# Altium footprint library Transistor.PcbLib: 3 footprints
Each footprint in its own frame and in the unit in brackets; x right, y up, seen from the top. Pads: shape width x height; smd on the part's side, far side on the other; paste and mask are expansions set on the pad; w line width, h text height; cw(c..) or ccw(c..) is an arc to the next point about the centre after c.
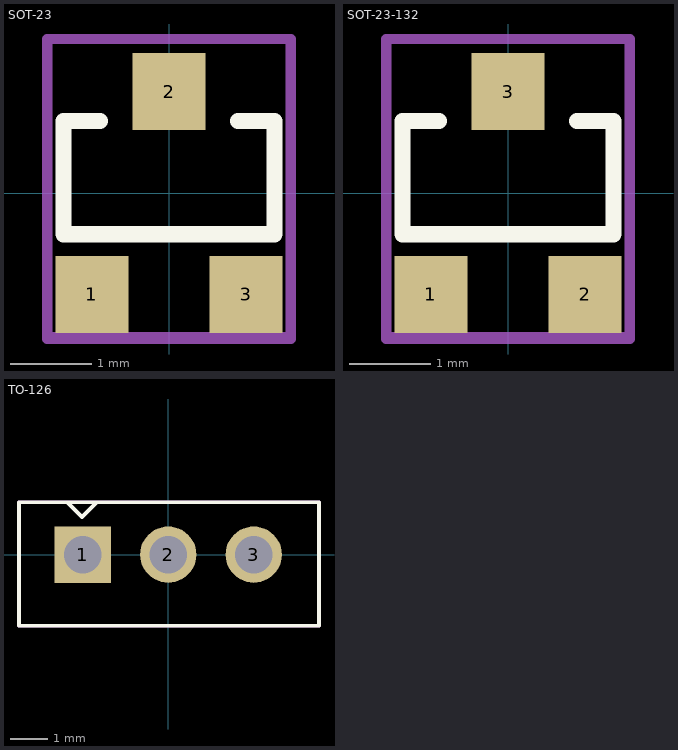
[diagram p0: the footprints below, top view; thin cyan lines are the x and y axes]

## SOT-23 [mm]
height 1.1
pads (3):
  rect 0.9x0.95 smd: 1(-0.95,-1.25) 2(0,1.25) 3(0.95,-1.25)
Top Overlay:
  lines w0.2: -0.85,0.889 -1.3,0.889 -1.3,-0.508 1.3,-0.508 1.3,0.889 0.85,0.889
Mechanical 13:
  lines w0.127: -1.5,-1.778 -1.5,1.9 1.5,1.9 1.5,-1.778 -1.5,-1.778
  text ".Designator" at 0.2,-1.6 h1
Mechanical 15:
  lines w0.127: -1.5,-1.8 -1.5,1.9 1.5,1.9 1.5,-1.8 -1.5,-1.8
  text ".Comment" at 0.254,-1.651 h1
3D body "SW3DPS-SOT-23-DEFAULT.STEP": height 1.06, standoff -0.04, extent -1.5,-1.123 1.5,1.377

## SOT-23-132 [mm]
height 1.1
pads (3):
  rect 0.9x0.95 smd: 1(-0.95,-1.25) 2(0.95,-1.25) 3(0,1.25)
Top Overlay:
  lines w0.2: -0.85,0.889 -1.3,0.889 -1.3,-0.508 1.3,-0.508 1.3,0.889 0.85,0.889
Mechanical 13:
  lines w0.127: -1.5,-1.778 1.5,-1.778 1.5,1.9 -1.5,1.9 -1.5,-1.778
  text ".Designator" at 0.254,-1.651 h1
Mechanical 15:
  lines w0.127: -1.5,-1.8 1.5,-1.8 1.5,1.9 -1.5,1.9 -1.5,-1.8
  text ".Comment" at 0.254,-1.651 h1
3D body "SW3DPS-SOT-23-DEFAULT.STEP": height 1.06, standoff -0.04, extent -1.5,-1.123 1.5,1.377

## TO-126 [mm]
pads (3):
  rect 1.5x1.5 hole 1: 1(-2.28,0)
  round 1.5 hole 1: 2(0,0) 3(2.28,0)
Top Overlay:
  lines w0.1: -2.7,1.4 -2.3,1 -1.9,1.4 ; -2.3,0 -2.28,0 ; -3.98,-1.9 -3.98,1.4 4.02,1.4 4.02,-1.9 -3.98,-1.9
Mechanical 13:
  lines w0.1: -3.98,-1.9 4.02,-1.9 4.02,1.4 -3.98,1.4 -3.98,-1.9
  text ".Designator" at -1.2,-0.7 h2.54
Mechanical 15:
  lines w0.1: -3.98,-1.9 4.02,-1.9 4.02,1.4 -3.98,1.4 -3.98,-1.9
  text ".Comment" at -1.2,-0.7 h2.54
3D body "TRANTO-126.STEP": height 13.94, standoff -13.86, extent -3.994,-1.885 4.006,1.365